# Altium integrated library RFIDReader.IntLib: 1 symbol
Pins are listed as number, name and electrical type; pins without a type are passive.

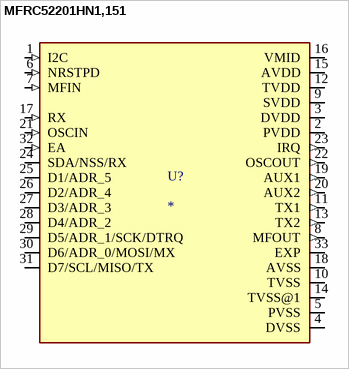
[diagram p0: symbol MFRC52201HN1,151]

## MFRC52201HN1,151
designator U?
RFID Reader IC 13.56MHz ISO 14443, MIFARE IÂ²C, SPI, UART 2.5V ~ 3.3V 32-VFQFN Exposed Pad; MP: MFRC52201HN1,151; MF: NXP USA; SnapEDA_Link: https://www.snapeda.com/parts/MFRC52201HN1,151/NXP+USA+Inc./view-part/?ref=snap; Package: HVQFN-32 NXP Semiconductors; Check_prices: https://www.snapeda.com/parts/MFRC52201HN1,151/NXP+USA+Inc./view-part/?ref=eda; Purchase-URL: https://pricing.snapeda.com/search/part/MFRC52201HN1,151/?ref=eda; Price: None; Value: *; Availability: In Stock
footprint QFN50P500X500X100-33N
pins: 1 I2C (in), 2 PVDD (power), 3 DVDD (power), 4 DVSS (power), 5 PVSS (power), 6 NRSTPD (in), 7 MFIN (in), 8 MFOUT (out), 9 SVDD (power), 10 TVSS (power), 11 TX1 (out), 12 TVDD (power), 13 TX2 (out), 14 TVSS@1 (power), 15 AVDD (power), 16 VMID (power), 17 RX (in), 18 AVSS (power), 19 AUX1 (out), 20 AUX2 (out), 21 OSCIN (in), 22 OSCOUT (out), 23 IRQ (out), 24 SDA/NSS/RX (io), 25 D1/ADR_5 (io), 26 D2/ADR_4 (io), 27 D3/ADR_3 (io), 28 D4/ADR_2 (io), 29 D5/ADR_1/SCK/DTRQ (io), 30 D6/ADR_0/MOSI/MX (io), 31 D7/SCL/MISO/TX (io), 32 EA (in), 33 EXP (power)